# Altium schematic symbol library Schlib2.SchLib: 13 symbols
Pins are listed as number, name and electrical type; pins without a type are passive.

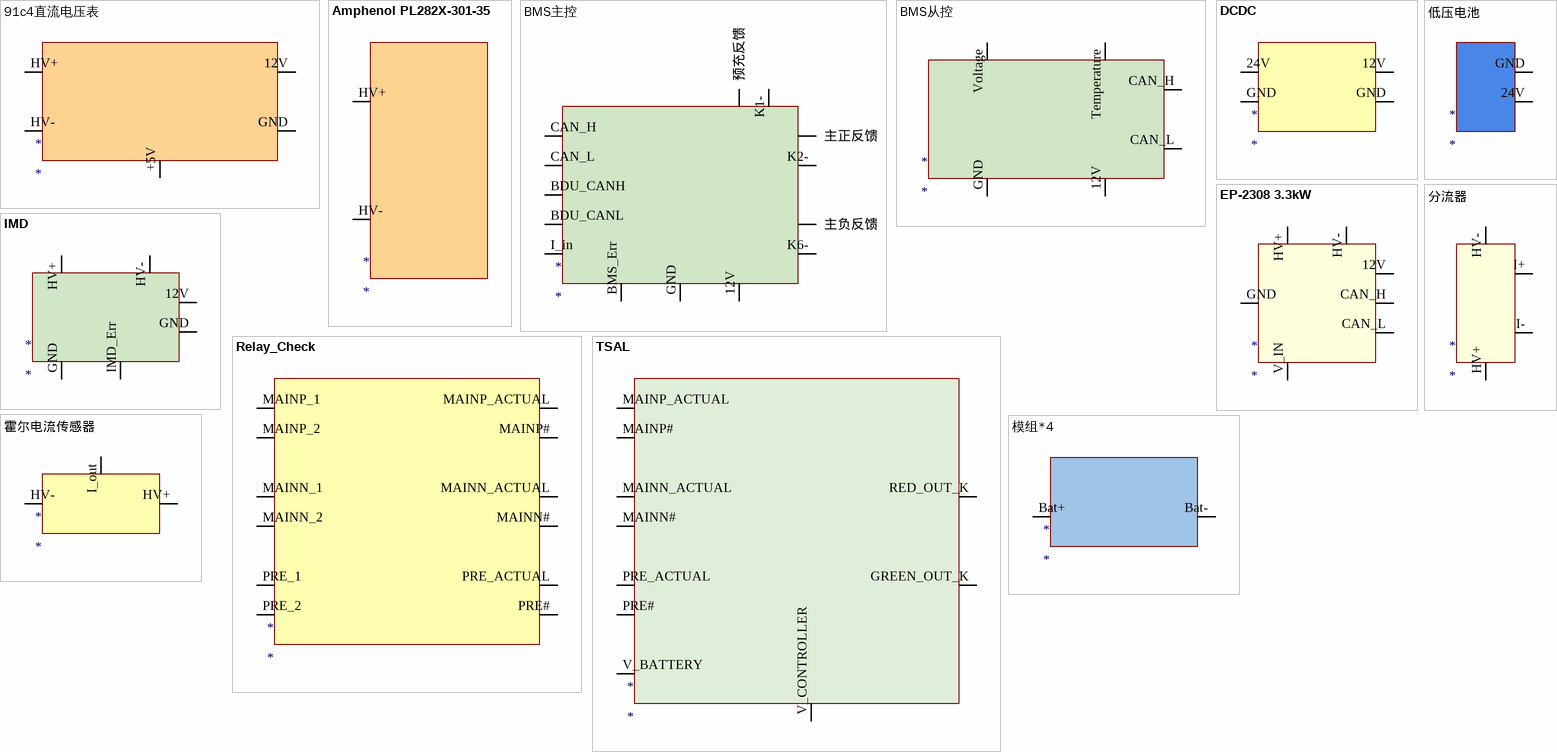
[diagram p0: symbols 91c4直流电压表 to 霍尔电流传感器]

## 91c4直流电压表
designator *
pins: 12V, +5V, GND, HV+, HV-

## Amphenol PL282X-301-35
designator *
pins: HV+, HV-

## BMS主控
designator *
pins: 12V, ?1 主负反馈, ?2 主正反馈, ?3 预充反馈, BDU_CANH, BDU_CANL, BMS_Err, CAN_H, CAN_L, GND, I_in, K1-, K2-, K6-

## BMS从控
designator *
pins: 12V, CAN_H, CAN_L, GND, Temperature, Voltage

## DCDC
designator *
pins: 12V, 24V, GND, GND

## EP-2308 3.3kW
designator *
pins: 12V, CAN_H, CAN_L, GND, HV+, HV-, V_IN

## IMD
designator *
pins: 12V, GND, GND, HV+, HV-, IMD_Err

## Relay_Check
designator *
pins: MAINN#, MAINN_1, MAINN_2, MAINN_ACTUAL, MAINP#, MAINP_1, MAINP_2, MAINP_ACTUAL, PRE#, PRE_1, PRE_2, PRE_ACTUAL

## TSAL
designator *
pins: GREEN_OUT_K, MAINN#, MAINN_ACTUAL, MAINP#, MAINP_ACTUAL, PRE#, PRE_ACTUAL, RED_OUT_K, V_BATTERY, V_CONTROLLER

## 低压电池
designator *
pins: 24V, GND

## 分流器
designator *
pins: HV+, HV-, I+, I-

## 模组*4
designator *
pins: Bat+, Bat-

## 霍尔电流传感器
designator *
pins: HV+, HV-, I_out